# EAGLE library part DOUBLE-IR-EMITTER-SFH4545_AND_RECEIVER-TEFT4300_MICROMOUSE-MOUNT (library PiB_leds)
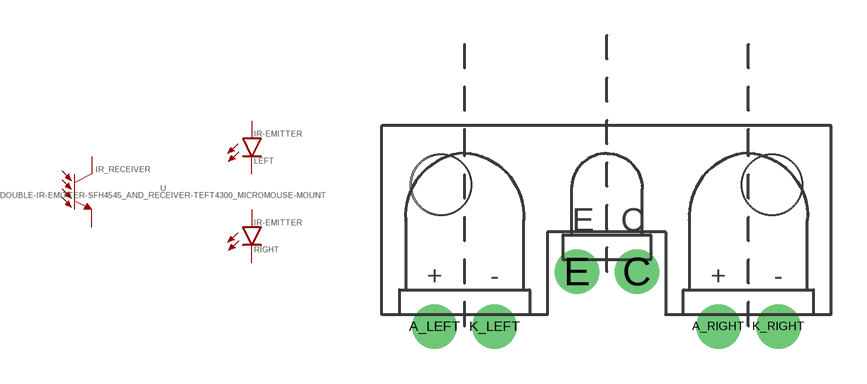
[diagram p1: symbol with the pads of DOUBLE-IR-EMITTER-SFH4545_AND_RECEIVER-TEFT4300_MICROMOUSE-MOUNT; footprint DOUBLE-IR-EMITTER-SFH4545_AND_RECEIVER-TEFT4300_MICROMOUSE-MOUNT]

Designator prefix -

## DOUBLE-IR-EMITTER-SFH4545_AND_RECEIVER-TEFT4300_MICROMOUSE-MOUNT  [DOUBLE-IR-EMITTER-SFH4545_AND_RECEIVER-TEFT4300_MICROMOUSE-MOUNT]
A_LEFT  A_LEFT  pas
A_RIGHT  A_RIGHT  pas
C  C  pas
E  E  pas
K_LEFT  K_LEFT  pas
K_RIGHT  K_RIGHT  pas

## Footprint DOUBLE-IR-EMITTER-SFH4545_AND_RECEIVER-TEFT4300_MICROMOUSE-MOUNT (pad centres in mm)
drill 0.813 pad 1.88: A_LEFT -7.27,-4.5; A_RIGHT 4.73,-4.5; C 1.286,-2.173; E -1.254,-2.173; K_LEFT -4.73,-4.5; K_RIGHT 7.27,-4.5
hole 2.6 at 7,1.5
hole 2.6 at -7,1.5